# Altium footprint library Adafruit PyGamer.PCBLIB: 205 footprints (part 8 of 13)
Each footprint in its own frame and in the unit in brackets; x right, y up, seen from the top. Pads: shape width x height; smd on the part's side, far side on the other; paste and mask are expansions set on the pad; w line width, h text height; cw(c..) or ccw(c..) is an arc to the next point about the centre after c.
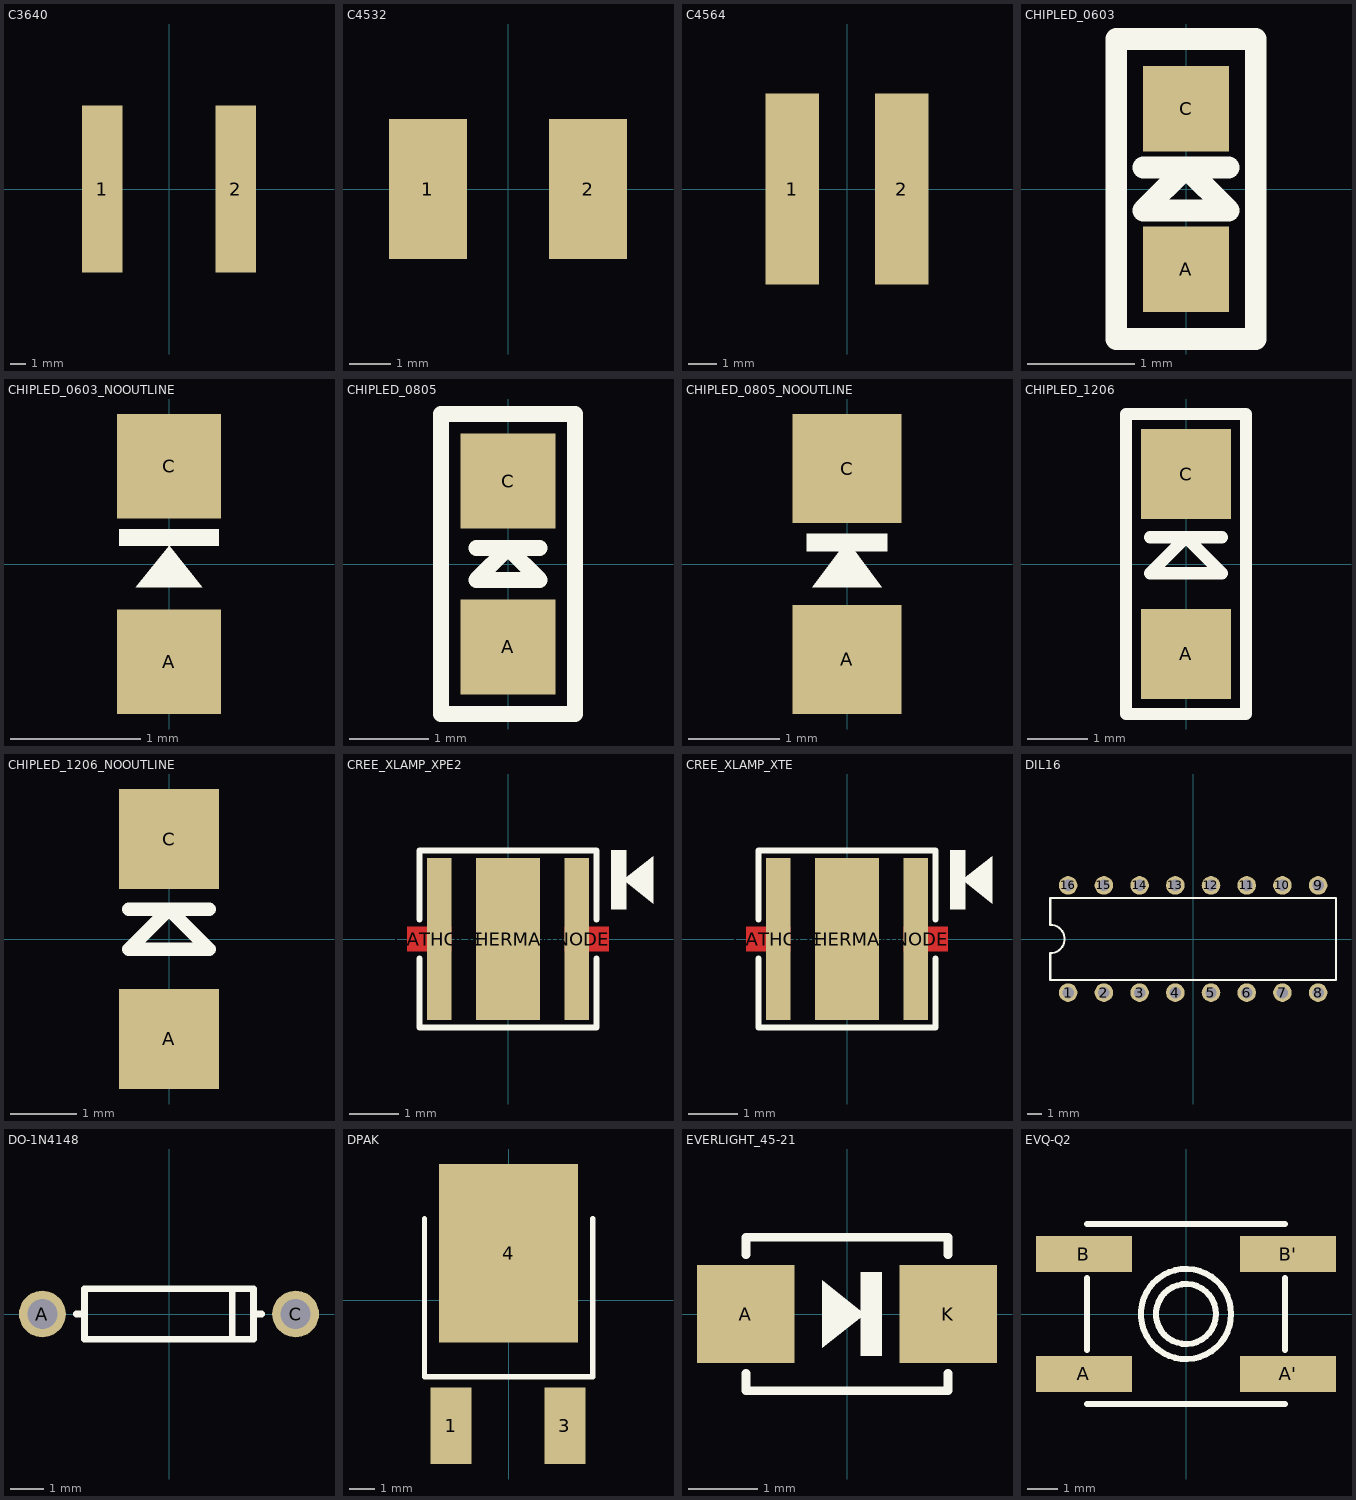
[diagram p7: the footprints below, top view; thin cyan lines are the x and y axes]

## C3640 [mm]
pads (2):
  rect 2.6x10.7 smd: 1(-4.267,0) 2(4.267,0)
Bottom Overlay:
  region: -4.57,-5.1 -4.57,5.1 -3.05,5.1 -3.05,-5.1
  region: 3.05,-5.1 3.05,5.1 4.569,5.1 4.569,-5.1
  lines w0.102: -3.832,-5.05 3.832,-5.05 ; -3.832,5.05 3.832,5.05

## C4532 [mil]
pads (2):
  rect 74.8x133.86 smd: 1(-76.77,0) 2(76.77,0)
Bottom Overlay:
  region: -94,-65 -94,64.92 -56.6,64.92 -56.6,-65
  region: 57,-65 57,64.92 94.4,64.92 94.4,-65
  lines w4: -58,63 58,63 ; -57,-63 58,-63

## C4564 [mil]
pads (2):
  rect 74.8x267.72 smd: 1(-76.77,0) 2(76.77,0)
Bottom Overlay:
  region: -95,-132 -95,131.78 -57.6,131.78 -57.6,-132
  region: 57,-132 57,131.78 94.4,131.78 94.4,-132
  lines w4: -59,129 58,129 ; -58,-129 59,-129

## CHIPLED_0603 [mil]
pads (2):
  rect 31.5x31.5 smd: A(0,-29.53) C(0,29.53)
Top Overlay:
  lines w8: -15.75,7.87 0,7.87 ; 15.75,7.87 0,7.87 ; 0,7.87 -15.75,-7.87 15.75,-7.87 0,7.87 ; -25.59,-55.12 -25.59,55.12 25.59,55.12 25.59,-55.12 -25.59,-55.12
Bottom Overlay:
  circle w2: c-13.78,24.61 r2.95
  region: -17.72,27.56 -17.72,33.46 -9.84,33.46 -9.84,27.56
  region: -10.83,21.65 -10.83,23.62 -8.86,23.62 -8.86,21.65
  region: -17.72,13.78 -17.72,28.54 -15.75,28.54 -15.75,13.78
  region: 9.84,21.65 9.84,33.46 17.72,33.46 17.72,21.65
  region: -17.72,13.78 -17.72,22.64 17.72,22.64 17.72,13.78
  region: -17.72,-33.46 -17.72,-13.78 -9.84,-13.78 -9.84,-33.46
  region: 9.84,-33.46 9.84,-13.78 17.72,-13.78 17.72,-33.46
  region: -10.83,-22.64 -10.83,-13.78 10.83,-13.78 10.83,-22.64
  region: -10.83,-25.59 -10.83,-21.65 -6.89,-21.65 -6.89,-25.59
  region: 6.89,-25.59 6.89,-21.65 10.83,-21.65 10.83,-25.59
  lines w2: -10.83,-32.48 cw(c0,-32.48) 10.83,-32.48
  lines w4: -15.75,-13.78 -15.75,14.76 ; -11.81,31.5 ccw(c0,32.53) 11.81,31.5 ; 15.75,-13.78 15.75,13.78

## CHIPLED_0603_NOOUTLINE [mil]
pads (2):
  rect 31.5x31.5 smd: A(0,-29.53) C(0,29.53)
Top Overlay:
  region: -15,5.5 -15,10.5 15,10.5 15,5.5
  region: 0,5.5 -10,-7 10,-7
Bottom Overlay:
  circle w2: c-13.78,24.61 r2.95
  region: -17.72,27.56 -17.72,33.46 -9.84,33.46 -9.84,27.56
  region: -10.83,21.65 -10.83,23.62 -8.86,23.62 -8.86,21.65
  region: -17.72,13.78 -17.72,28.54 -15.75,28.54 -15.75,13.78
  region: 9.84,21.65 9.84,33.46 17.72,33.46 17.72,21.65
  region: -17.72,13.78 -17.72,22.64 17.72,22.64 17.72,13.78
  region: -17.72,-33.46 -17.72,-13.78 -9.84,-13.78 -9.84,-33.46
  region: 9.84,-33.46 9.84,-13.78 17.72,-13.78 17.72,-33.46
  region: -10.83,-22.64 -10.83,-13.78 10.83,-13.78 10.83,-22.64
  region: -10.83,-25.59 -10.83,-21.65 -6.89,-21.65 -6.89,-25.59
  region: 6.89,-25.59 6.89,-21.65 10.83,-21.65 10.83,-25.59
  lines w2: -10.83,-32.48 cw(c0,-32.48) 10.83,-32.48
  lines w4: -15.75,-13.78 -15.75,14.76 ; -11.81,31.5 ccw(c0,32.53) 11.81,31.5 ; 15.75,-13.78 15.75,13.78

## CHIPLED_0805 [mil]
pads (2):
  rect 47.24x47.24 smd: A(0,-41.34) C(0,41.34)
Top Overlay:
  lines w8: -15.75,7.87 0,7.87 ; 15.75,7.87 0,7.87 ; 0,7.87 -15.75,-7.87 15.75,-7.87 0,7.87 ; -33.46,-74.8 33.46,-74.8 33.46,74.8 -33.46,74.8 -33.46,-74.8
Bottom Overlay:
  circle w3: c-17.72,33.46 r4.06
  region: 11.81,19.69 11.81,39.37 24.61,39.37 24.61,19.69
  region: -12.8,19.69 -12.8,29.53 -6.89,29.53 -6.89,19.69
  region: 6.89,19.69 6.89,29.53 12.8,29.53 12.8,19.69
  region: -7.87,19.69 -7.87,26.57 7.87,26.57 7.87,19.69
  region: 11.81,-39.37 11.81,-19.69 24.61,-19.69 24.61,-39.37
  region: -24.61,-39.37 -24.61,-19.69 -11.81,-19.69 -11.81,-39.37
  region: 6.89,-29.53 6.89,-19.69 12.8,-19.69 12.8,-29.53
  region: -12.8,-29.53 -12.8,-19.69 -6.89,-19.69 -6.89,-29.53
  region: -7.87,-26.57 -7.87,-19.69 7.87,-19.69 7.87,-26.57
  region: -23.62,19.69 -23.62,30 -11.81,30 -11.81,19.69
  region: -24.61,36.42 -24.61,39.37 -11.81,39.37 -11.81,36.42
  lines w4: -22.64,-19.69 -22.64,36.42 ; -13.78,-36.42 cw(c0,-38.55) 13.78,-36.42 ; -13.78,36.42 ccw(c0,38.55) 13.78,36.42 ; 22.64,-20.67 22.64,20.67
  text "A" at -3.94,-55.12 h15.5
  text "C" at -3.94,47.24 h15.5

## CHIPLED_0805_NOOUTLINE [mil]
pads (2):
  rect 47.24x47.24 smd: A(0,-41.34) C(0,41.34)
Top Overlay:
  region: -17.5,5.53 -17.5,13.03 17.5,13.03 17.5,5.53
  region: 0,10 -15,-10 15,-10
Bottom Overlay:
  circle w3: c-17.72,33.46 r4.06
  region: 11.81,19.69 11.81,39.37 24.61,39.37 24.61,19.69
  region: -12.8,19.69 -12.8,29.53 -6.89,29.53 -6.89,19.69
  region: 6.89,19.69 6.89,29.53 12.8,29.53 12.8,19.69
  region: -7.87,19.69 -7.87,26.57 7.87,26.57 7.87,19.69
  region: 11.81,-39.37 11.81,-19.69 24.61,-19.69 24.61,-39.37
  region: -24.61,-39.37 -24.61,-19.69 -11.81,-19.69 -11.81,-39.37
  region: 6.89,-29.53 6.89,-19.69 12.8,-19.69 12.8,-29.53
  region: -12.8,-29.53 -12.8,-19.69 -6.89,-19.69 -6.89,-29.53
  region: -7.87,-26.57 -7.87,-19.69 7.87,-19.69 7.87,-26.57
  region: -23.62,19.69 -23.62,30 -11.81,30 -11.81,19.69
  region: -24.61,36.42 -24.61,39.37 -11.81,39.37 -11.81,36.42
  lines w4: -22.64,-19.69 -22.64,36.42 ; -13.78,-36.42 cw(c0,-38.55) 13.78,-36.42 ; -13.78,36.42 ccw(c0,38.55) 13.78,36.42 ; 22.64,-20.67 22.64,20.67
  text "A" at -3.94,-55.12 h15.5
  text "C" at -3.94,47.24 h15.5

## CHIPLED_1206 [mil]
pads (2):
  rect 59.06x59.06 smd: A(0,-58.9) C(0,58.9)
Top Overlay:
  lines w8: -23.62,17.56 0,17.56 ; 23.62,17.56 0,17.56 ; 0,17.56 -23.62,-6.06 23.62,-6.06 0,17.56 ; -39.37,-98.37 -39.37,98.37 39.37,98.37 39.37,-98.37 -39.37,-98.37
Bottom Overlay:
  circle w3: c-21.65,56.1 r3.94
  region: -33.46,60.04 -33.46,64.96 -13.78,64.96 -13.78,60.04
  region: -33.46,48.23 -33.46,61.02 -24.61,61.02 -24.61,48.23
  region: -17.72,48.23 -17.72,57.09 -12.8,57.09 -12.8,48.23
  region: -25.59,48.23 -25.59,53.15 -8.86,53.15 -8.86,48.23
  region: 13.78,51.18 13.78,64.96 33.46,64.96 33.46,51.18
  region: 9.84,48.23 9.84,53.15 33.46,53.15 33.46,48.23
  region: -33.46,37.4 -33.46,49.21 33.46,49.21 33.46,37.4
  region: -33.46,-64.96 -33.46,-37.4 33.46,-37.4 33.46,-64.96
  lines w4: -31.5,-37.4 -31.5,37.4 ; -15.75,62.99 ccw(c0,64.01) 15.75,62.99 ; 31.5,-37.4 31.5,37.4
  text "A" at -3.94,-87.8 h24.8
  text "C" at -3.94,73.23 h24.8

## CHIPLED_1206_NOOUTLINE [mil]
pads (2):
  rect 59.06x59.06 smd: A(0,-58.9) C(0,58.9)
Top Overlay:
  lines w8: -23.62,17.56 0,17.56 ; 23.62,17.56 0,17.56 ; 0,17.56 -23.62,-6.06 23.62,-6.06 0,17.56

## CREE_XLAMP_XPE2 [mil]
pads (3):
  rect 19.69x129.92 smd paste+0: ANODE(55.12,0) CATHODE(-55.12,0)
  rect 51.18x129.92 smd paste+0: THERMAL(0,0)
Top:
  region: -80.71,-9.84 -80.71,9.84 -45.28,9.84 -45.28,-9.84
  region: 80.71,9.84 80.71,-9.84 45.28,-9.84 45.28,9.84
Top Overlay:
  region: 82.68,23.62 82.68,70.87 94.49,70.87 94.49,23.62
  region: 92.36,47.24 116.3,28.31 116.3,66.18
  lines w5: -70.87,-15.75 -70.87,-70.87 70.87,-70.87 70.87,-15.75 ; -70.87,15.75 -70.87,70.87 70.87,70.87 70.87,15.75
Bottom Overlay:
  circle w5: c0,0 r58.53
  region: -59.06,-59.06 -59.06,-51.18 -51.18,-51.18 -51.18,-59.06
  region: -19.69,-19.69 -19.69,19.69 19.69,19.69 19.69,-19.69
  lines w5: -23.62,-66.93 -23.62,-27.56 27.56,-27.56 27.56,27.56 0,27.56 0,66.93 ; -67.91,-67.91 67.91,-67.91 67.91,67.91 -67.91,67.91 -67.91,-67.91

## CREE_XLAMP_XTE [mil]
pads (3):
  rect 19.69x129.92 smd paste+0: ANODE(55.12,0) CATHODE(-55.12,0)
  rect 51.18x129.92 smd paste+0: THERMAL(0,0)
Top:
  region: -80.71,-9.84 -80.71,9.84 -45.28,9.84 -45.28,-9.84
  region: 80.71,9.84 80.71,-9.84 45.28,-9.84 45.28,9.84
Top Overlay:
  region: 82.68,23.62 82.68,70.87 94.49,70.87 94.49,23.62
  region: 92.36,47.24 116.3,28.31 116.3,66.18
  lines w5: -70.87,-15.75 -70.87,-70.87 70.87,-70.87 70.87,-15.75 ; -70.87,15.75 -70.87,70.87 70.87,70.87 70.87,15.75
Bottom Overlay:
  circle w5: c0,0 r62.25
  circle w5: c0,0 r54.84
  region: -59.06,-59.06 -59.06,-51.18 -51.18,-51.18 -51.18,-59.06
  region: -19.69,-19.69 -19.69,19.69 19.69,19.69 19.69,-19.69
  lines w3.94: 47.24,-4.92 57.09,-4.92 57.09,-14.76 66.93,-14.76 66.93,-4.92 76.77,-4.92 76.77,4.92 66.93,4.92 66.93,14.76 57.09,14.76 57.09,4.92 47.24,4.92 47.24,-4.92
  lines w5: -67.91,-67.91 67.91,-67.91 67.91,67.91 -67.91,67.91 -67.91,-67.91

## DIL16 [mil]
pads (16):
  round 52 hole 32: 1(-350,-150) 2(-250,-150) 3(-150,-150) 4(-50,-150) 5(50,-150) 6(150,-150) 7(250,-150) 8(350,-150) 9(350,150) 10(250,150) 11(150,150) 12(50,150) 13(-50,150) 14(-150,150) 15(-250,150) 16(-350,150)
Top Overlay:
  lines w6: -400,-115 400,-115 400,115 -400,115 -400,40 cw(c-400,0) -400,-40 -400,-115

## DO-1N4148 [mil]
pads (2):
  round 55.43 hole 35.43: A(-150,0) C(150,0)
Top Overlay:
  lines w8: -110,0 -100,0 ; 75,-25 75,25 ; 110,0 100,0 ; -100,0 -100,-30 100,-30 100,0 ; -100,0 -100,30 100,30 100,0

## DPAK [mil]
pads (3):
  rect 63x118 smd: 1(-89,-194) 3(87,-194)
  rect 214.63x275.59 smd: 4(0,72.94)
Top Overlay:
  lines w8: -129.92,125.98 -129.92,-118.11 129.92,-118.11 129.92,125.98
Bottom Overlay:
  region: -104,-226 -104,-121 -74,-121 -74,-226
  region: 72,-226 72,-121 102,-121 102,-226
  region: -15,-151 -15,-121 15,-121 15,-151
  region: -98.43,125.98 -98.43,155.51 -64.96,177.17 64.96,177.17 98.43,155.51 98.43,125.98
  lines w8: -129.92,125.98 129.92,125.98
  text "1" at -95,-99.5 h37.2
  text "2" at -8,-99.5 h37.2
  text "3" at 78,-99.5 h37.2
  text "4" at -13,72.5 h37.2

## EVERLIGHT_45-21 [mil]
pads (2):
  rect 55.12x55.12 smd: A(-57.09,0) K(57.09,0)
Top Overlay:
  region: 19.69,23.62 19.69,-23.62 7.87,-23.62 7.87,23.62
  region: 10,0 -13.94,18.94 -13.94,-18.94
  lines w5: -57.09,-33.46 -57.09,-43.31 57.09,-43.31 57.09,-33.46 ; -57.09,33.46 -57.09,43.31 57.09,43.31 57.09,33.46
Bottom Overlay:
  lines w5: 51.18,-33.46 47.24,-37.4 43.31,-37.4 53.15,-27.56 ; -53.15,-27.56 -53.15,-39.37 35.43,-39.37 ; -53.15,-27.56 -53.15,27.56 ; -53.15,-27.56 -59.06,-27.56 -59.06,27.56 -53.15,27.56 ; -53.15,27.56 -53.15,39.37 53.15,39.37 53.15,27.56 ; 35.43,-39.37 53.15,-39.37 53.15,-27.56 ; 35.43,-39.37 53.15,-21.65 ; 53.15,-27.56 59.06,-27.56 59.06,27.56 53.15,27.56 ; 53.15,-27.56 53.15,-21.65 ; 53.15,-21.65 53.15,27.56 ; -45.28,-19.69 ccw(c-33.47,-19.68) -33.46,-31.5 33.46,-31.5 ccw(c33.47,-19.68) 45.28,-19.69 45.28,17.72 ccw(c31.5,17.72) 31.5,31.5 -33.46,31.5 ccw(c-33.47,19.68) -45.28,19.69 -45.28,-19.69

## EVQ-Q2 [mm]
pads (4):
  rect 3.2x1.2 smd: A(-3.4,-2) A'(3.4,-2) B(-3.4,2) B'(3.4,2)
Top Overlay:
  circle w0.203: c0,0 r1.503
  circle w0.203: c0,0 r1
  lines w0.203: -3.3,-3 3.3,-3 ; -3.3,-1.2 -3.3,1.2 ; -3.3,3 3.3,3 ; 3.3,-1.2 3.3,1.2
Bottom Overlay:
  lines w0.127: -3.3,-3 -3.3,3 ; 3.3,-3 3.3,3